# Altium footprint library Connectors_Header_1.27mm.PcbLib: 19 footprints (part 1 of 2)
Each footprint in its own frame and in the unit in brackets; x right, y up, seen from the top. Pads: shape width x height; smd on the part's side, far side on the other; paste and mask are expansions set on the pad; w line width, h text height; cw(c..) or ccw(c..) is an arc to the next point about the centre after c.
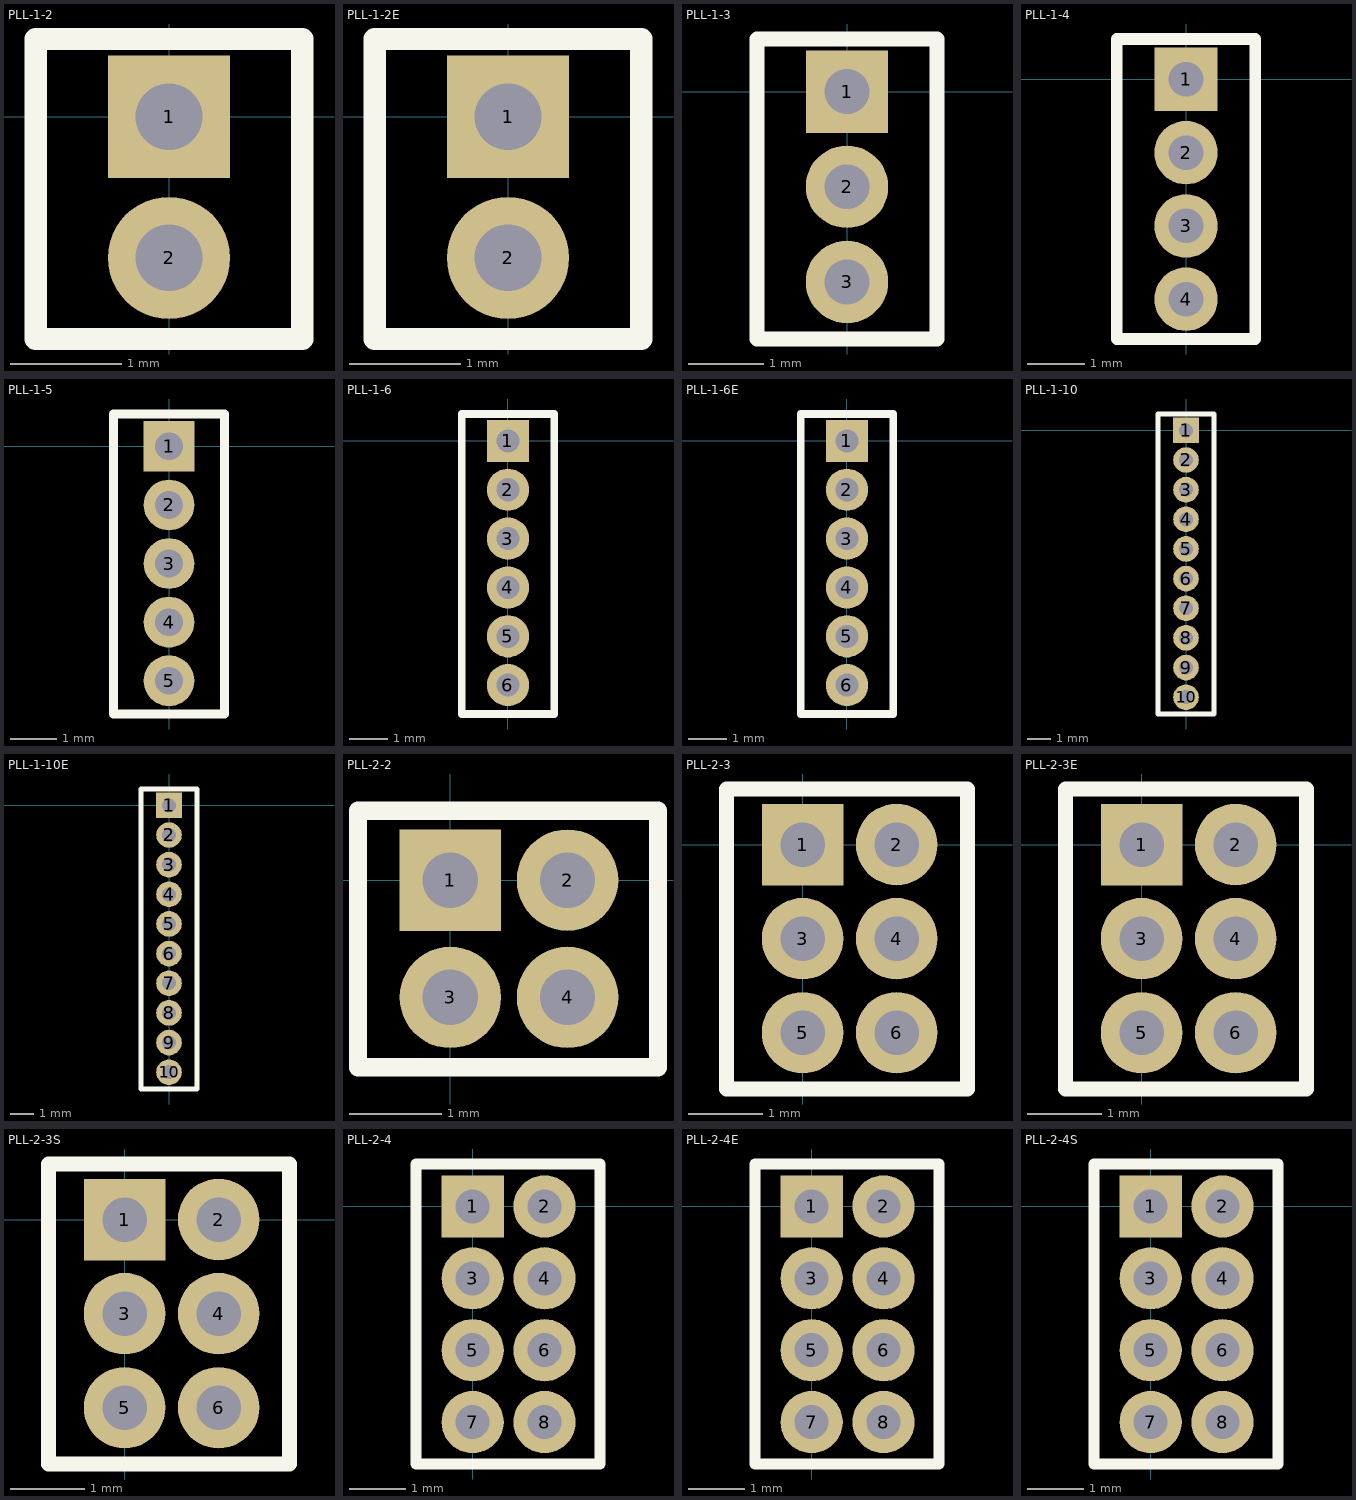
[diagram p0: the footprints below, top view; thin cyan lines are the x and y axes]

## PLL-1-2 [mm]
pads (2):
  rect 1.1x1.1 hole 0.6: 1(0,0)
  round 1.1 hole 0.6: 2(0,-1.27)
Top Overlay:
  lines w0.2: -1.2,-2 -1.2,0.7 1.2,0.7 1.2,-2 -1.2,-2
3D body "User Library-PinHeader1_27_2.STEP": height 5, standoff -2.3, extent -1.2,-1.905 1.2,0.635

## PLL-1-2E [mm]
pads (2):
  rect 1.1x1.1 hole 0.6: 1(0,0)
  round 1.1 hole 0.6: 2(0,-1.27)
Top Overlay:
  lines w0.2: -1.2,-2 -1.2,0.7 1.2,0.7 1.2,-2 -1.2,-2

## PLL-1-3 [mm]
pads (3):
  rect 1.1x1.1 hole 0.6: 1(0,0)
  round 1.1 hole 0.6: 2(0,-1.27) 3(0,-2.54)
Top Overlay:
  lines w0.2: -1.2,-3.3 -1.2,0.7 1.2,0.7 1.2,-3.3 -1.2,-3.3
3D body "User Library-PinHeader1_27_3.STEP": height 5, standoff -2.3, extent -1.2,-3.175 1.2,0.635

## PLL-1-4 [mm]
pads (4):
  rect 1.1x1.1 hole 0.6: 1(0,0)
  round 1.1 hole 0.6: 2(0,-1.27) 3(0,-2.54) 4(0,-3.81)
Top Overlay:
  lines w0.2: -1.2,-4.5 -1.2,0.7 1.2,0.7 1.2,-4.5 -1.2,-4.5
3D body "User Library-PinHeader1_27_2.STEP": height 5, standoff -2.3, extent -1.2,-1.905 1.2,0.635
3D body "User Library-PinHeader1_27_2.STEP": height 5, standoff -2.3, extent -1.2,-4.445 1.2,-1.905

## PLL-1-5 [mm]
pads (5):
  rect 1.1x1.1 hole 0.6: 1(0,0)
  round 1.1 hole 0.6: 2(0,-1.27) 3(0,-2.54) 4(0,-3.81) 5(0,-5.08)
Top Overlay:
  lines w0.2: -1.2,-5.8 1.2,-5.8 1.2,0.7 -1.2,0.7 -1.2,-5.8
3D body "User Library-PinHeader1_27_3.STEP": height 5, standoff -2.3, extent -1.2,-5.715 1.2,-1.905
3D body "User Library-PinHeader1_27_2.STEP": height 5, standoff -2.3, extent -1.2,-1.905 1.2,0.635

## PLL-1-6 [mm]
pads (6):
  rect 1.1x1.1 hole 0.6: 1(0,0)
  round 1.1 hole 0.6: 2(0,-1.27) 3(0,-2.54) 4(0,-3.81) 5(0,-5.08) 6(0,-6.35)
Top Overlay:
  lines w0.2: -1.2,-7.1 1.2,-7.1 1.2,0.7 -1.2,0.7 -1.2,-7.1
3D body "User Library-PinHeader1_27_2.STEP": height 5, standoff -2.3, extent -1.2,-6.985 1.2,-4.445
3D body "User Library-PinHeader1_27_2.STEP": height 5, standoff -2.3, extent -1.2,-4.445 1.2,-1.905
3D body "User Library-PinHeader1_27_2.STEP": height 5, standoff -2.3, extent -1.2,-1.905 1.2,0.635

## PLL-1-6E [mm]
pads (6):
  rect 1.1x1.1 hole 0.6: 1(0,0)
  round 1.1 hole 0.6: 2(0,-1.27) 3(0,-2.54) 4(0,-3.81) 5(0,-5.08) 6(0,-6.35)
Top Overlay:
  lines w0.2: -1.2,-7.1 1.2,-7.1 1.2,0.7 -1.2,0.7 -1.2,-7.1

## PLL-1-10 [mm]
pads (10):
  rect 1.1x1.1 hole 0.6: 1(0,0)
  round 1.1 hole 0.6: 2(0,-1.27) 3(0,-2.54) 4(0,-3.81) 5(0,-5.08) 6(0,-6.35) 7(0,-7.62) 8(0,-8.89) 9(0,-10.16) 10(0,-11.43)
Top Overlay:
  lines w0.2: -1.2,-12.15 -1.2,-5.8 -1.2,0.7 1.2,0.7 1.2,-5.8 1.2,-12.15 -1.2,-12.15
3D body "User Library-PinHeader1_27_2.STEP": height 5, standoff -2.3, extent -1.2,-8.255 1.2,-5.715
3D body "User Library-PinHeader1_27_3.STEP": height 5, standoff -2.3, extent -1.2,-12.065 1.2,-8.255
3D body "User Library-PinHeader1_27_3.STEP": height 5, standoff -2.3, extent -1.2,-5.715 1.2,-1.905
3D body "User Library-PinHeader1_27_2.STEP": height 5, standoff -2.3, extent -1.2,-1.905 1.2,0.635

## PLL-1-10E [mm]
pads (10):
  rect 1.1x1.1 hole 0.6: 1(0,0)
  round 1.1 hole 0.6: 2(0,-1.27) 3(0,-2.54) 4(0,-3.81) 5(0,-5.08) 6(0,-6.35) 7(0,-7.62) 8(0,-8.89) 9(0,-10.16) 10(0,-11.43)
Top Overlay:
  lines w0.2: -1.2,-12.15 1.2,-12.15 1.2,-5.8 1.2,0.7 -1.2,0.7 -1.2,-5.8 -1.2,-12.15

## PLL-2-2 [mm]
pads (4):
  rect 1.1x1.1 hole 0.6: 1(0,0)
  round 1.1 hole 0.6: 2(1.27,0) 3(0,-1.27) 4(1.27,-1.27)
Top Overlay:
  lines w0.2: -1,-2.025 -1,0.75 2.25,0.75 2.25,-2.025 -1,-2.025
3D body "User Library-PLLD1_27-xxPLLD1_27-4.STEP": height 4.7, standoff -2.6, extent -0.875,-1.905 2.125,0.635

## PLL-2-3 [mm]
pads (6):
  rect 1.1x1.1 hole 0.6: 1(0,0)
  round 1.1 hole 0.6: 2(1.27,0) 3(0,-1.27) 4(1.27,-1.27) 5(0,-2.54) 6(1.27,-2.54)
Top Overlay:
  lines w0.2: -1.025,-3.3 -1.025,0.75 2.225,0.75 2.225,-3.3 -1.025,-3.3
3D body "User Library-PLLD1_27-xxPLLD1_27-6.STEP": height 4.7, standoff -2.6, extent -0.9,-3.175 2.1,0.635

## PLL-2-3E [mm]
pads (6):
  rect 1.1x1.1 hole 0.6: 1(0,0)
  round 1.1 hole 0.6: 2(1.27,0) 3(0,-1.27) 4(1.27,-1.27) 5(0,-2.54) 6(1.27,-2.54)
Top Overlay:
  lines w0.2: -1.025,-3.3 2.225,-3.3 2.225,0.75 -1.025,0.75 -1.025,-3.3

## PLL-2-3S [mm]
pads (6):
  rect 1.1x1.1 hole 0.6: 1(0,0)
  round 1.1 hole 0.6: 2(1.27,0) 3(0,-1.27) 4(1.27,-1.27) 5(0,-2.54) 6(1.27,-2.54)
Top Overlay:
  lines w0.2: -1.025,-3.3 2.225,-3.3 2.225,0.75 -1.025,0.75 -1.025,-3.3
3D body "pcb_connector_853-87-006-10-001101.stp": height 3.8, standoff -2.6, extent -1.01,-3.4 2.24,0.82

## PLL-2-4 [mm]
pads (8):
  rect 1.1x1.1 hole 0.6: 1(0,0)
  round 1.1 hole 0.6: 2(1.27,0) 3(0,-1.27) 4(1.27,-1.27) 5(0,-2.54) 6(1.27,-2.54) 7(0,-3.81) 8(1.27,-3.81)
Top Overlay:
  lines w0.2: -1,-4.55 2.25,-4.55 2.25,0.75 -1,0.75 -1,-4.55
3D body "User Library-PLLD1_27-xxPLLD1_27-8.STEP": height 4.7, standoff -2.6, extent -0.875,-4.445 2.125,0.635

## PLL-2-4E [mm]
pads (8):
  rect 1.1x1.1 hole 0.6: 1(0,0)
  round 1.1 hole 0.6: 2(1.27,0) 3(0,-1.27) 4(1.27,-1.27) 5(0,-2.54) 6(1.27,-2.54) 7(0,-3.81) 8(1.27,-3.81)
Top Overlay:
  lines w0.2: -1,-4.55 -1,0.75 2.25,0.75 2.25,-4.55 -1,-4.55

## PLL-2-4S [mm]
pads (8):
  rect 1.1x1.1 hole 0.6: 1(0,0)
  round 1.1 hole 0.6: 2(1.27,0) 3(0,-1.27) 4(1.27,-1.27) 5(0,-2.54) 6(1.27,-2.54) 7(0,-3.81) 8(1.27,-3.81)
Top Overlay:
  lines w0.2: -1,-4.55 -1,0.75 2.25,0.75 2.25,-4.55 -1,-4.55
3D body "pcb_connector_853-87-008-10-001101.stp": height 3.8, standoff -2.6, extent -1,-4.645 2.25,0.845